# Altium footprint library PcbLib1.PcbLib: 46 footprints (part 1 of 3)
Each footprint in its own frame and in the unit in brackets; x right, y up, seen from the top. Pads: shape width x height; smd on the part's side, far side on the other; paste and mask are expansions set on the pad; w line width, h text height; cw(c..) or ccw(c..) is an arc to the next point about the centre after c.
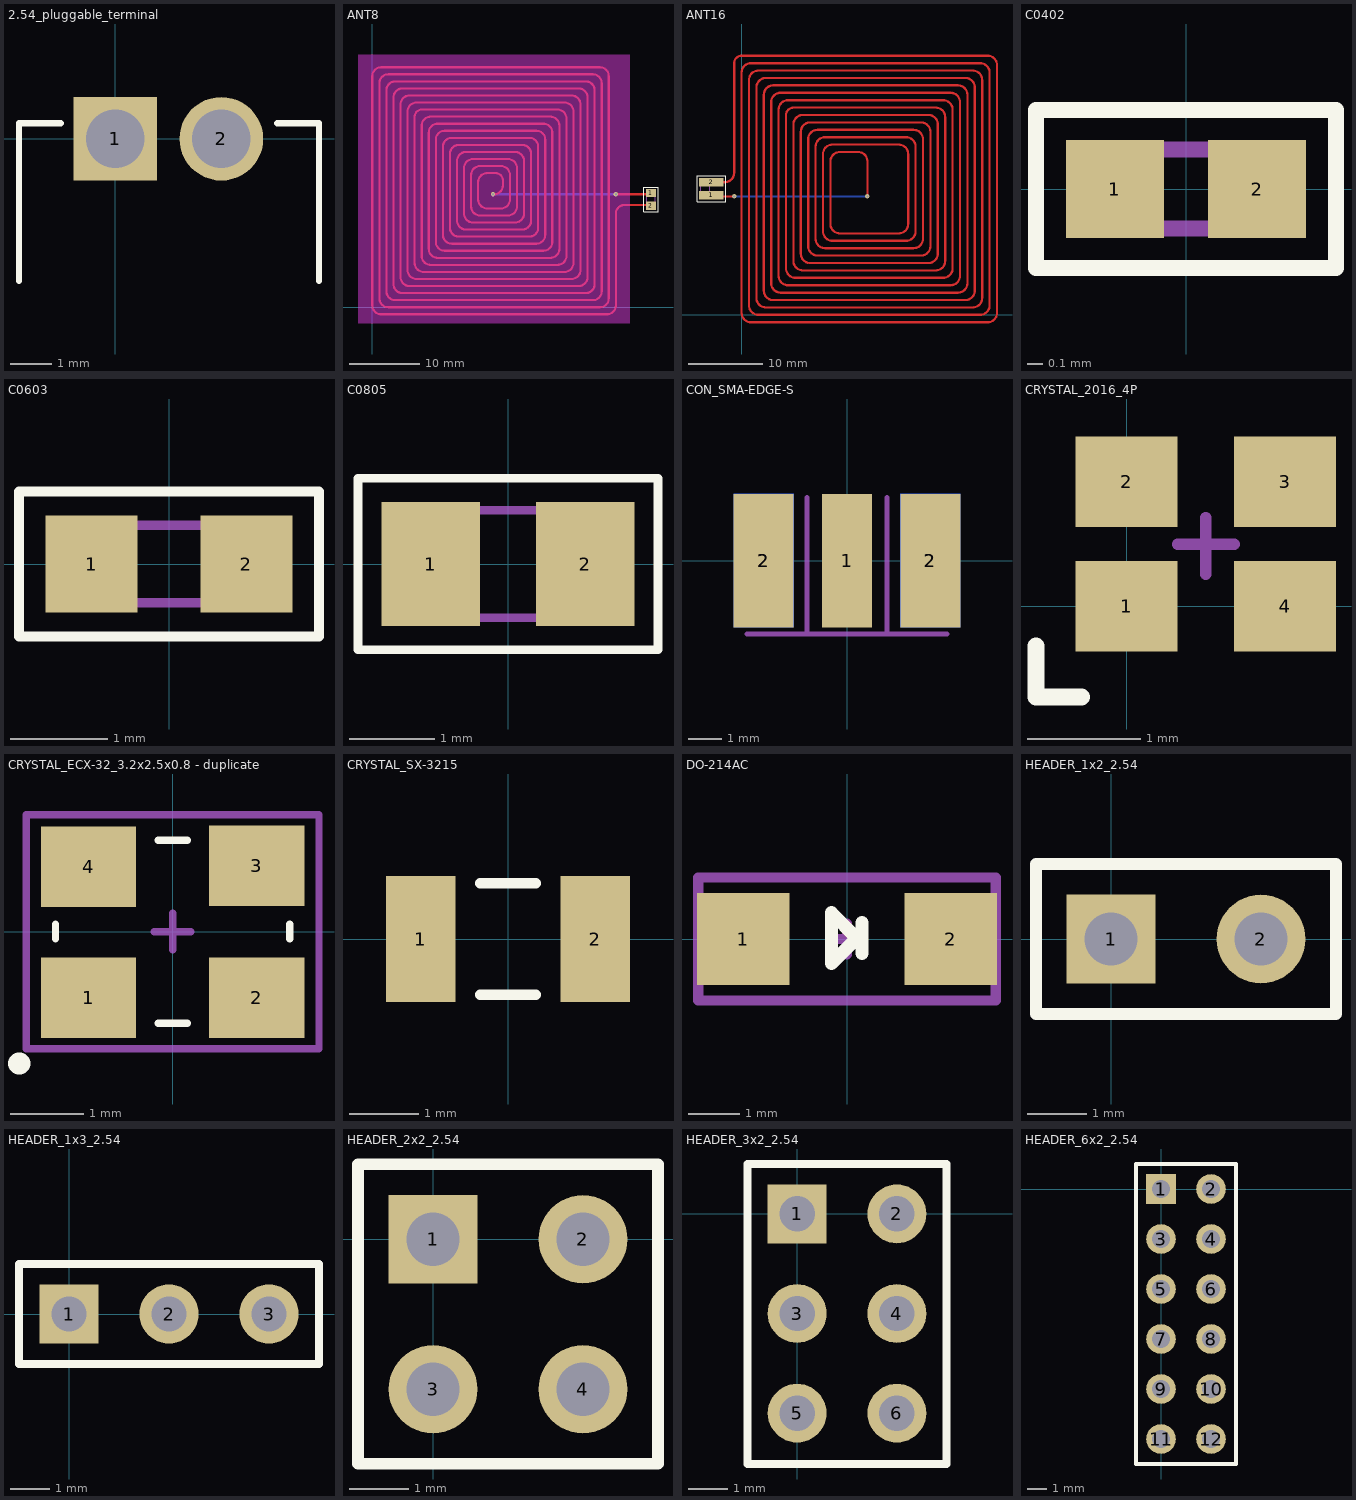
[diagram p0: the footprints below, top view; thin cyan lines are the x and y axes]

## 2.54_pluggable_terminal [mm] "Connector; Header; 2 Position"
pads (2):
  rect 2x2 hole 1.4: 1(0,0)
  round 2 hole 1.4: 2(2.54,0)
Top Overlay:
  lines w0.15: -2.3,-3.4 -2.3,0.375 -1.3,0.375 ; 3.875,0.375 4.875,0.375 4.875,-3.4
3D body "plugin_female.step": height 8.1, standoff -3.5, extent -2.17,-9.95 4.77,0.35

## ANT8 [mm] "13.56 MHz, 28.5pF, with external capacitor 34mm x 34mm, 12 turns, 0.3 trace width, 0.6 spacing"
pads (2):
  rect 1.45x1.15 smd mask+0.05: 1(39.475,16.175) 2(39.475,14.375)
via 34.5,16 diameter 0.6 hole 0.3
via 17.115,16 diameter 0.6 hole 0.3
Top Layer:
  lines w0.3: 17,16 17.23,16 ccw(c17.23,17.27) 18.5,17.27 18.5,18 ccw(c17.5,18) 17.5,19 16.27,19 ccw(c16.27,17.73) 15,17.73 15,15.27 ccw(c16.27,15.27) 16.27,14 18.23,14 ccw(c18.23,15.27) 19.5,15.27 19.5,18.73 ccw(c18.23,18.73) 18.23,20 15.27,20 ccw(c15.27,18.73) 14,18.73 14,14.27 ccw(c15.27,14.27) 15.27,13 19.23,13 ccw(c19.23,14.27) 20.5,14.27 20.5,19.73 ccw(c19.23,19.73) 19.23,21 14.27,21 ccw(c14.27,19.73) 13,19.73 13,13.27 ccw(c14.27,13.27) 14.27,12 20.23,12 ccw(c20.23,13.27) 21.5,13.27 21.5,20.73 ccw(c20.23,20.73) 20.23,22 13.27,22 ccw(c13.27,20.73) 12,20.73 12,12.27 ccw(c13.27,12.27) 13.27,11 21.23,11 ccw(c21.23,12.27) 22.5,12.27 22.5,21.73 ccw(c21.23,21.73) 21.23,23 12.27,23 ccw(c12.27,21.73) 11,21.73 11,11.27 ccw(c12.27,11.27) 12.27,10 22.23,10 ccw(c22.23,11.27) 23.5,11.27 23.5,22.73 ccw(c22.23,22.73) 22.23,24 11.27,24 ccw(c11.27,22.73) 10,22.73 10,10.27 ccw(c11.27,10.27) 11.27,9 23.23,9 ccw(c23.23,10.27) 24.5,10.27 24.5,23.73 ccw(c23.23,23.73) 23.23,25 10.27,25 ccw(c10.27,23.73) 9,23.73 9,9.27 ccw(c10.27,9.27) 10.27,8 24.23,8 ccw(c24.23,9.27) 25.5,9.27 25.5,24.73 ccw(c24.23,24.73) 24.23,26 9.27,26 ccw(c9.27,24.73) 8,24.73 8,8.27 ccw(c9.27,8.27) 9.27,7 25.23,7 ccw(c25.23,8.27) 26.5,8.27 26.5,25.73 ccw(c25.23,25.73) 25.23,27 8.27,27 ccw(c8.27,25.73) 7,25.73 7,7.27 ccw(c8.27,7.27) 8.27,6 26.23,6 ccw(c26.23,7.27) 27.5,7.27 27.5,26.73 ccw(c26.23,26.73) 26.23,28 7,28 ccw(c7,27) 6,27 6,6.27 ccw(c7.27,6.27) 7.27,5 27.23,5 ccw(c27.23,6.27) 28.5,6.27 28.5,27.73 ccw(c27.23,27.73) 27.23,29 6.27,29 ccw(c6.27,27.73) 5,27.73 5,5.27 ccw(c6.27,5.27) 6.27,4 28.23,4 ccw(c28.23,5.27) 29.5,5.27 29.5,28.73 ccw(c28.23,28.73) 28.23,30 5.27,30 ccw(c5.27,28.73) 4,28.73 4,4.27 ccw(c5.27,4.27) 5.27,3 29.23,3 ccw(c29.23,4.27) 30.5,4.27 30.5,29.73 ccw(c29.23,29.73) 29.23,31 4.27,31 ccw(c4.27,29.73) 3,29.73 3,3.27 ccw(c4.27,3.27) 4.27,2 30.23,2 ccw(c30.23,3.27) 31.5,3.27 31.5,30.73 ccw(c30.23,30.73) 30.23,32 3.27,32 ccw(c3.27,30.73) 2,30.73 2,2.27 ccw(c3.27,2.27) 3.27,1 31.23,1 ccw(c31.23,2.27) 32.5,2.27 32.5,31.73 ccw(c31.23,31.73) 31.23,33 2.27,33 ccw(c2.27,31.73) 1,31.73 1,1.27 ccw(c2.27,1.27) 2.27,0 32.23,0 ccw(c32.23,1.27) 33.5,1.27 33.5,32.73 ccw(c32.23,32.73) 32.23,34 1.27,34 ccw(c1.27,32.73) 0,32.73 0,18.5 0,0.27 ccw(c1.27,0.27) 1.27,-1 33.23,-1 ccw(c33.23,0.27) 34.5,0.27 34.5,12.5 34.5,13.23 cw(c35.77,13.23) 35.77,14.5 39.5,14.5 ; 34.5,16 39.5,16
Bottom Layer:
  lines w0.3: 17.115,16 34.5,16
Top Overlay:
  lines w0.1: 38.475,13.525 40.475,13.525 40.475,17.025 38.475,17.025 38.475,13.525
Keep-Out Layer:
  region: -2.025,35.75 36.475,35.75 36.475,-2.25 -2.025,-2.25
Mechanical 15:
  lines w0.1: 38.85,14.275 38.85,16.275 40.1,16.275 40.1,14.275 38.85,14.275
3D body "C0805.step": height 0.61, standoff -0.01, extent 38.84,14.265 40.11,16.285

## ANT16 [mm] "13.56 MHz, 28.5pF, with external capacitor 34mm x 34mm, 12 turns, 0.3 trace width, 0.6 spacing"
pads (2):
  rect 3.3x1.15 smd mask+0.05: 1(-4.1,16.125) 2(-4.1,17.925)
via 17,16 diameter 0.6 hole 0.3
via -1,16 diameter 0.6 hole 0.3
Top Layer:
  lines w0.3: -4.1,16.125 cw(c-3.95,16.125) -3.95,16.275 ; -4.1,17.925 -2.27,17.925 ccw(c-2.27,19.195) -1,19.195 -1,34 cw(c0,34) 0,35 33.23,35 cw(c33.23,33.73) 34.5,33.73 34.5,13.08 34.5,0.27 cw(c33.23,0.27) 33.23,-1 1.27,-1 cw(c1.27,0.27) 0,0.27 0,18.5 0,32.73 cw(c1.27,32.73) 1.27,34 32.23,34 cw(c32.23,32.73) 33.5,32.73 33.5,1.27 cw(c32.23,1.27) 32.23,0 2.27,0 cw(c2.27,1.27) 1,1.27 1,31.73 cw(c2.27,31.73) 2.27,33 31.23,33 cw(c31.23,31.73) 32.5,31.73 32.5,2.27 cw(c31.23,2.27) 31.23,1 3.27,1 cw(c3.27,2.27) 2,2.27 2,30.73 cw(c3.27,30.73) 3.27,32 30.23,32 cw(c30.23,30.73) 31.5,30.73 31.5,3.27 cw(c30.23,3.27) 30.23,2 4.27,2 cw(c4.27,3.27) 3,3.27 3,29.73 cw(c4.27,29.73) 4.27,31 29.23,31 cw(c29.23,29.73) 30.5,29.73 30.5,4.27 cw(c29.23,4.27) 29.23,3 5.27,3 cw(c5.27,4.27) 4,4.27 4,28.73 cw(c5.27,28.73) 5.27,30 28.23,30 cw(c28.23,28.73) 29.5,28.73 29.5,5.27 cw(c28.23,5.27) 28.23,4 6.27,4 cw(c6.27,5.27) 5,5.27 5,27.73 cw(c6.27,27.73) 6.27,29 27.23,29 cw(c27.23,27.73) 28.5,27.73 28.5,6.27 cw(c27.23,6.27) 27.23,5 7.27,5 cw(c7.27,6.27) 6,6.27 6,27 cw(c7,27) 7,28 26.23,28 cw(c26.23,26.73) 27.5,26.73 27.5,7.27 cw(c26.23,7.27) 26.23,6 8.27,6 cw(c8.27,7.27) 7,7.27 7,25.73 cw(c8.27,25.73) 8.27,27 25.23,27 cw(c25.23,25.73) 26.5,25.73 26.5,8.27 cw(c25.23,8.27) 25.23,7 9.27,7 cw(c9.27,8.27) 8,8.27 8,24.73 cw(c9.27,24.73) 9.27,26 24.23,26 cw(c24.23,24.73) 25.5,24.73 25.5,9.27 cw(c24.23,9.27) 24.23,8 10.27,8 cw(c10.27,9.27) 9,9.27 9,23.73 cw(c10.27,23.73) 10.27,25 23.23,25 cw(c23.23,23.73) 24.5,23.73 24.5,10.27 cw(c23.23,10.27) 23.23,9 11.27,9 cw(c11.27,10.27) 10,10.27 10,22.73 cw(c11.27,22.73) 11.27,24 22.23,24 cw(c22.23,22.73) 23.5,22.73 23.5,11.27 cw(c22.23,11.27) 22.23,10 12.27,10 cw(c12.27,11.27) 11,11.27 11,21.73 cw(c12.27,21.73) 12.27,23 21.23,23 cw(c21.23,21.73) 22.5,21.73 22.5,12.27 cw(c21.23,12.27) 21.23,11 13.27,11 cw(c13.27,12.27) 12,12.27 12,15.5 12,15.73 12,20.73 cw(c13.27,20.73) 13.27,22 13.73,22 15.73,22 cw(c15.73,20.73) 17,20.73 17,16 ; -3.95,16.125 ccw(c-3.825,16.125) -3.825,16 -1,16
Bottom Layer:
  lines w0.3: -1,16 17,16
Top Overlay:
  lines w0.1: -6.025,15.275 -2.15,15.275 -2.15,18.775 -6.025,18.775 -6.025,15.275
Mechanical 15:
  lines w0.1: -5.525,16.025 -5.525,18.025 ; -5.45,16.025 -4.2,16.025 ; -5.45,18.025 -4.2,18.025 ; -4.275,16.025 -4.275,18.025
3D body "C0805.step": height 0.61, standoff -0.01, extent -3.98,15.943 -2.71,17.963
3D body "C0805.step": height 0.61, standoff -0.01, extent -5.535,16.015 -4.265,18.035

## C0402 [mm] "Chip Capacitor; Body 1 x 0.5 mm (LxW typ)"
height 0.4
pads (2):
  rect 0.62x0.62 smd mask+0.05: 1(-0.45,0) 2(0.45,0)
Top Overlay:
  lines w0.1: -0.95,-0.5 0.95,-0.5 0.95,0.5 -0.95,0.5 -0.95,-0.5
Mechanical 15:
  lines w0.1: -0.5,-0.25 0.5,-0.25 0.5,0.25 -0.5,0.25 -0.5,-0.25
3D body "User Library-Capacitor 0402.step": height 0.5, standoff 0, extent -0.5,-0.25 0.5,0.25

## C0603 [mm] "Chip Capacitor; Body 1.6 x 0.8 mm (LxW typ)"
height 0.87
pads (2):
  rect 0.95x1 smd mask+0.05: 1(-0.8,0) 2(0.8,0)
Top Overlay:
  lines w0.1: -1.55,-0.75 -1.55,0.75 1.55,0.75 1.55,-0.75 -1.55,-0.75
Mechanical 15:
  lines w0.1: -0.8,-0.4 0.8,-0.4 0.8,0.4 -0.8,0.4 -0.8,-0.4
3D body "C0603.step": height 0.8, standoff 0, extent -0.8,-0.4 0.8,0.4

## C0805 [mm] "Chip Capacitor; Body 2.0 x 1.2 mm (LxW typ)"
height 1.3
pads (2):
  rect 1.15x1.45 smd mask+0.05: 1(-0.9,0) 2(0.9,0)
Top Overlay:
  lines w0.1: -1.75,-1 -1.75,1 1.75,1 1.75,-1 -1.75,-1
Mechanical 15:
  lines w0.1: -1,-0.625 1,-0.625 1,0.625 -1,0.625 -1,-0.625
3D body "C0805.step": height 0.61, standoff -0.01, extent -1.01,-0.635 1.01,0.635

## CON_SMA-EDGE-S [mm]
pads (5):
  rect 1.5x4 smd mask+0.05: 1(0,0)
  rect 1.8x4 smd mask+0.05: 2(-2.5,0) 2(2.5,0)
  rect 1.8x4 smd far side mask+0.05: 2(-2.5,0) 2(2.5,0)
Mechanical 2:
  lines w0.15: -3,-2.2 3,-2.2
  text "PCB Edge" at -2.9,-3 h1
Mechanical 15:
  lines w0.15: -3,-2.2 3,-2.2 ; -1.2,-2.2 -1.2,1.9 ; 1.2,-2.2 1.2,1.9
3D body "User Library-620-SMA-02-112-TGG SMA Female for PCB edge Mount.step": height 3.46, standoff -2.59, extent -3,-11.9 3,1.7

## CRYSTAL_2016_4P [mm]
height 1
pads (4):
  rect 0.9x0.8 smd: 1(0,0) 2(0,1.1) 3(1.4,1.1) 4(1.4,0)
Top Overlay:
  lines w0.15: -0.8,-0.5 -0.8,-0.35 -0.8,-0.8 -0.4,-0.8
Mechanical 15:
  lines w0.1: 0.45,0.55 0.95,0.55 ; 0.7,0.285 0.7,0.785
3D body "ECS-320-6-37B2-CKY-TR.STEP": height 0.5, standoff 0, extent -0.285,-0.217 1.715,1.383

## CRYSTAL_ECX-32_3.2x2.5x0.8 - duplicate [mm]
height 1
pads (4):
  rect 1.3x1.1 smd: 1(-1.15,-0.9) 2(1.15,-0.9) 3(1.15,0.9) 4(-1.15,0.89)
Top Overlay:
  lines w0.1: -1.6,-0.1 -1.6,0.1 ; -0.2,-1.25 0.2,-1.25 ; -0.2,1.25 0.2,1.25 ; 1.6,-0.1 1.6,0.1
  lines w0.3: -2.1,-1.8 -2.096,-1.8
Mechanical 15:
  lines w0.1: -0.25,0 0.25,0 ; 0,-0.25 0,0.25 ; -2,-1.6 2,-1.6 2,1.6 -2,1.6 -2,-1.6
3D body "ABM8G.STEP": height 0.99, standoff 0, extent -1.6,-1.244 1.6,1.245

## CRYSTAL_SX-3215 [mm]
pads (2):
  rect 1x1.8 smd: 1(-1.25,0) 2(1.25,0)
Top Overlay:
  lines w0.15: -0.4,-0.8 0.4,-0.8 ; -0.4,0.8 0.4,0.8
3D body "User Library-Siward_SX3215.step": height 0.81, standoff 0, extent -1.6,-0.75 1.6,0.75

## DO-214AC [mm]
pads (2):
  rect 1.8x1.8 smd: 1(-2.025,0) 2(2.025,0)
Top Overlay:
  lines w0.2: -0.307,0.018 -0.289,0
  lines w0.254: 0.293,-0.282 0.293,0.318 ; -0.307,-0.482 -0.307,0.518 0.193,0.018 -0.307,-0.482
Mechanical 15:
  lines w0.2: -0.3,0 0.3,0 ; 0,-0.3 0,0.3 ; -2.9,-1.2 2.9,-1.2 2.9,1.2 -2.9,1.2 -2.9,-1.2
3D body "DO-214AC (SMA).step": height 1.96, standoff 0.01, extent -2.555,-1.3 2.555,1.4

## HEADER_1x2_2.54 [mm] "Connector; Header; 2 Position"
pads (2):
  rect 1.5x1.5 hole 0.9: 1(0,0)
  round 1.5 hole 0.9: 2(2.54,0)
Top Overlay:
  lines w0.2: -1.27,-1.27 -1.27,1.27 3.81,1.27 3.81,-1.27 -1.27,-1.27
3D body "User Library-HEADER2.step": height 8.5, standoff -2.5, extent -1.28,-1.27 3.8,1.27

## HEADER_1x3_2.54 [mm] "Connector; Header; 3 Position"
pads (3):
  rect 1.5x1.5 hole 0.9: 1(0,0)
  round 1.5 hole 0.9: 2(2.54,0) 3(5.08,0)
Top Overlay:
  lines w0.2: -1.27,-1.27 6.35,-1.27 6.35,1.27 -1.27,1.27 -1.27,-1.27
3D body "User Library-Header_Male_3Pin.STEP": height 8.59, standoff -2.95, extent -1.27,-1.245 6.35,1.245

## HEADER_2x2_2.54 [mm] "Connector; Header; 2 Position"
pads (4):
  rect 1.5x1.5 hole 0.9: 1(0,0)
  round 1.5 hole 0.9: 2(2.54,0) 3(0,-2.54) 4(2.54,-2.54)
Top Overlay:
  lines w0.2: -1.27,-3.8 3.81,-3.8 3.81,1.27 -1.27,1.27 -1.27,-3.8
3D body "Pin Header 2x2 TH Pitch 2.54mm.stp": height 9.5, standoff -3.2, extent -1.27,-3.74 3.81,1.34

## HEADER_3x2_2.54 [mm] "Connector; Header; 2 Position"
pads (6):
  rect 1.5x1.5 hole 0.9: 1(0,0)
  round 1.5 hole 0.9: 2(2.54,0) 3(0,-2.54) 4(2.54,-2.54) 5(0,-5.08) 6(2.54,-5.08)
Top Overlay:
  lines w0.2: -1.27,-6.375 3.81,-6.375 3.81,1.27 -1.27,1.27 -1.27,-6.375
3D body "Pin Header 2x3 TH Pitch 2.54mm.stp": height 9.5, standoff -3.2, extent -1.209,-6.32 3.871,1.3

## HEADER_6x2_2.54 [mm] "Connector; Header; 2 Position"
pads (12):
  rect 1.5x1.5 hole 0.9: 1(0,0)
  round 1.5 hole 0.9: 2(2.54,0) 3(0,-2.54) 4(2.54,-2.54) 5(0,-5.08) 6(2.54,-5.08) 7(0,-7.62) 8(2.54,-7.62) 9(0,-10.16) 10(2.54,-10.16) 11(0,-12.7) 12(2.54,-12.7)
Top Overlay:
  lines w0.2: -1.27,-13.97 3.81,-13.97 3.81,1.27 -1.27,1.27 -1.27,-13.97
3D body "Pin Header 2x6 TH Pitch 2.54mm.stp": height 9.5, standoff -3.2, extent -1.27,-13.97 3.81,1.27